# Altium schematic symbol library 4位共阳极数码管.SchLib: 1 symbol
Pins are listed as number, name and electrical type; pins without a type are passive.

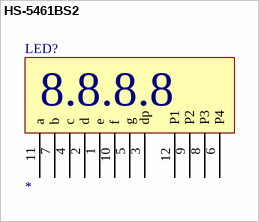
[diagram p0: symbol HS-5461BS2]

## HS-5461BS2
designator LED?
footprint HS-5461BS2
pins: 1 e, 2 d, 3 dp, 4 c, 5 g, 6 P4, 7 b, 8 P3, 9 P2, 10 f, 11 a, 12 P1
text: 8.8.8.8